# Altium footprint library ACS712_MOD.PcbLib: 1 footprints
Each footprint in its own frame and in the unit in brackets; x right, y up, seen from the top. Pads: shape width x height; smd on the part's side, far side on the other; paste and mask are expansions set on the pad; w line width, h text height; cw(c..) or ccw(c..) is an arc to the next point about the centre after c.
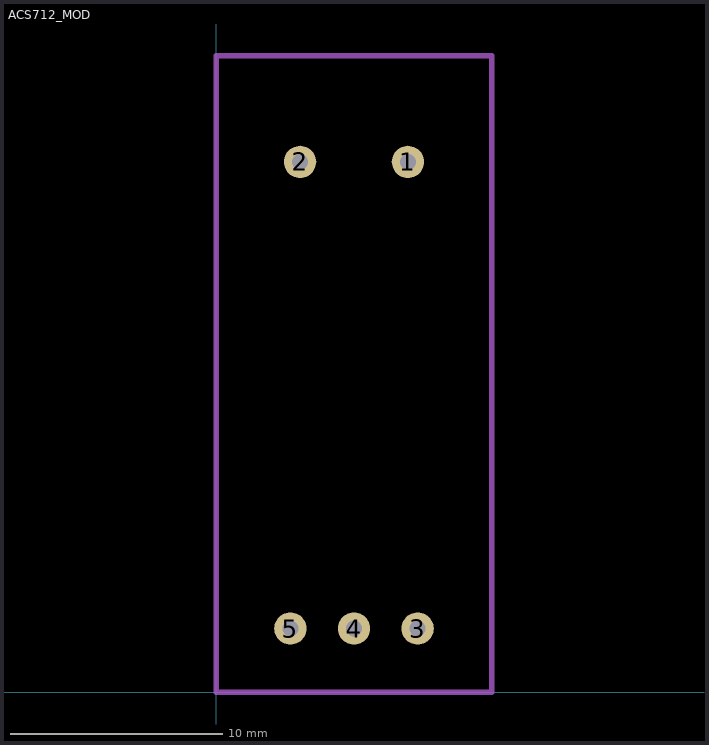
[diagram p0: the footprint, top view; thin cyan lines are the x and y axes]

## ACS712_MOD [mil]
height 393.7
pads (5):
  round 60 hole 30: 1(355.91,984.25) 2(155.91,984.25) 3(374.02,118.11) 4(255.91,118.11) 5(137.8,118.11)
Mechanical 1:
  lines w10: 0,0 511.81,0 511.81,1181.1 0,1181.1 0,0